# Altium footprint library LED-0805-RED.PcbLib: 1 footprints
Each footprint in its own frame and in the unit in brackets; x right, y up, seen from the top. Pads: shape width x height; smd on the part's side, far side on the other; paste and mask are expansions set on the pad; w line width, h text height; cw(c..) or ccw(c..) is an arc to the next point about the centre after c.
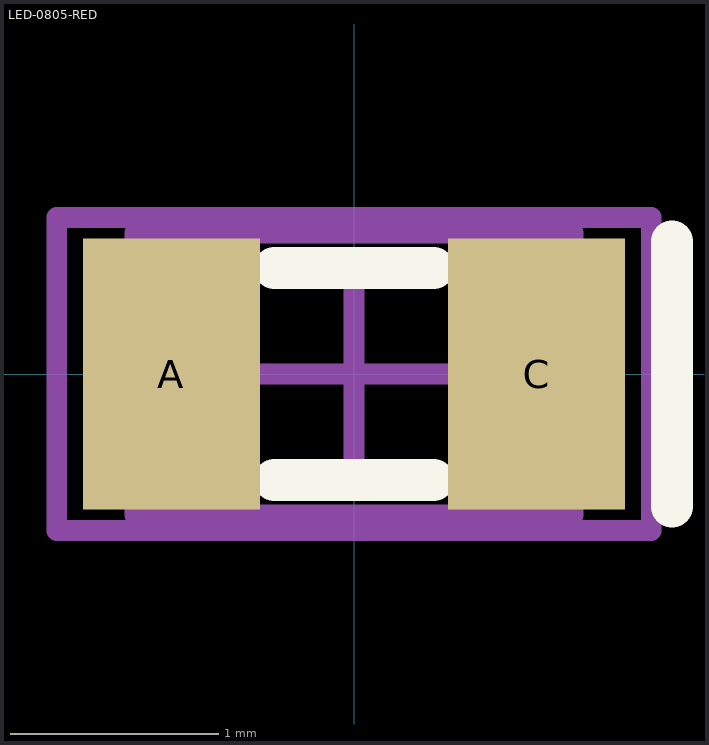
[diagram p0: the footprint, top view; thin cyan lines are the x and y axes]

## LED-0805-RED [mm] "LED_0805"
height 1.1
pads (2):
  rect 0.85x1.3 smd: A(-0.875,0) C(0.875,0)
Top Overlay:
  lines w0.2: -0.381,-0.508 0.381,-0.508 ; -0.381,0.508 0.381,0.508 ; 1.524,-0.635 1.524,0.635
Mechanical 13:
  lines w0.1: -1.05,-0.675 1.05,-0.675 1.05,0.675 -1.05,0.675 -1.05,-0.675
Mechanical 15:
  lines w0.1: -0.5,0 0.5,0 ; 0,-0.5 0,0.5 ; -1.425,-0.75 1.425,-0.75 1.425,0.75 -1.425,0.75 -1.425,-0.75
3D body: height 0.75, standoff 0.25, extent -0.599,-0.624 0.599,0.624
3D body: height 0.26, standoff 0, extent 0.751,-0.624 0.999,0.624
3D body: height 0.26, standoff 0, extent -0.999,-0.624 -0.751,0.624
3D body: height 0.25, standoff 0, extent -0.75,-0.624 0.75,0.624